# Altium integrated library Cap.IntLib: 4 symbols
Pins are listed as number, name and electrical type; pins without a type are passive.

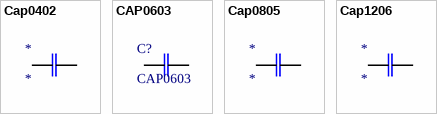
[diagram p0: symbols Cap0402 to Cap1206]

## Cap0402
designator *
footprint Cap0402
pins: 1, 2

## CAP0603
designator C?
footprint C0603
pins: 1, 2

## Cap0805
designator *
footprint Cap0805
pins: 1, 2

## Cap1206
designator *
footprint Cap1206
pins: 1, 2